# Altium footprint library Capacitor.PcbLib: 8 footprints
Each footprint in its own frame and in the unit in brackets; x right, y up, seen from the top. Pads: shape width x height; smd on the part's side, far side on the other; paste and mask are expansions set on the pad; w line width, h text height; cw(c..) or ccw(c..) is an arc to the next point about the centre after c.
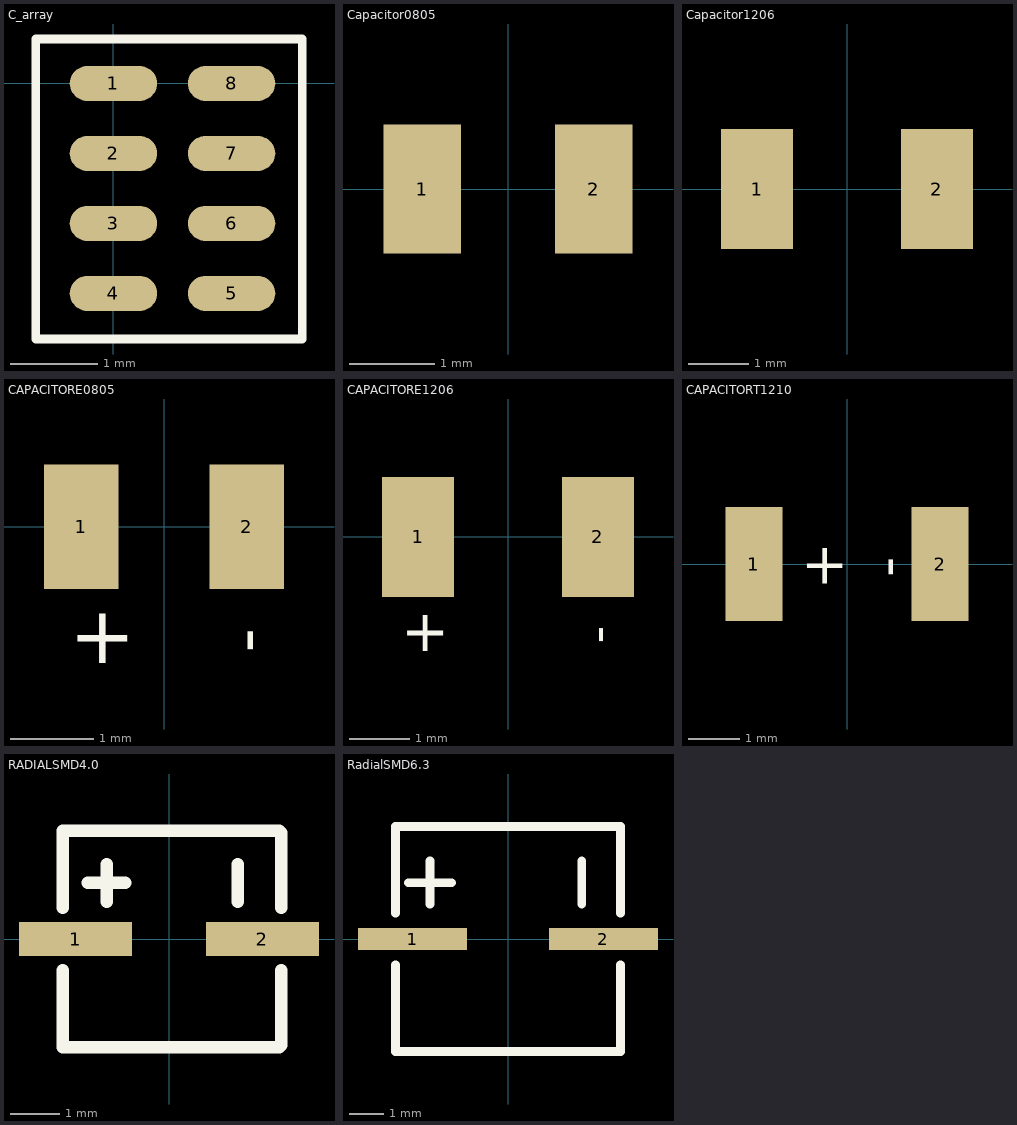
[diagram p0: the footprints below, top view; thin cyan lines are the x and y axes]

## C_array [mm]
pads (8):
  oval 1x0.4 smd: 1(0,0) 2(0,-0.8) 3(0,-1.6) 4(0,-2.4) 5(1.35,-2.4) 6(1.35,-1.6) 7(1.35,-0.8) 8(1.35,0)
Top Overlay:
  lines w0.1: -0.889,-2.921 -0.889,0.508 2.159,0.508 2.159,-2.921 -0.889,-2.921
3D body: height 1.11, standoff 0.01, extent -0.165,-2.819 1.435,0.381

## Capacitor0805 [mm]
pads (2):
  rect 0.9x1.5 smd: 1(-1,0) 2(1,0)
3D body: height 0.78, standoff 0, extent -1.016,-0.625 0.984,0.625

## Capacitor1206 [mm]
pads (2):
  rect 1.2x2 smd: 1(-1.5,0) 2(1.5,0)
3D body: height 1, standoff 0, extent -1.6,-0.8 1.6,0.8

## CAPACITORE0805 [mm]
pads (2):
  rect 0.9x1.5 smd: 1(-1,0) 2(1,0)
Top Overlay:
  text "-" at 1.27,-1.524 h0.6
  text "+" at -1.143,-1.651 h0.7

## CAPACITORE1206 [mm]
pads (2):
  rect 1.2x2 smd: 1(-1.5,0) 2(1.5,0)
Top Overlay:
  text "-" at 1.778,-1.778 h0.6
  text "+" at -1.778,-1.905 h0.7

## CAPACITORT1210 [mm] "Tantalum Capacitor 1210"
pads (2):
  rect 1.1x2.2 smd: 1(-1.8,0) 2(1.8,0)
Top Overlay:
  text "-" at 1.143,-0.254 h0.8
  text "+" at -0.889,-0.381 h0.8
3D body: height 2.09, standoff -0.01, extent -1.869,-1.393 1.821,1.427

## RADIALSMD4.0 [mm]
pads (2):
  rect 2.3x0.7 smd: 1(-1.9,0) 2(1.9,0)
Top Overlay:
  lines w0.254: -2.159,-0.635 -2.159,-2.2 2.245,-2.2 2.286,-2.159 2.286,-0.635 ; -2.159,0.635 -2.159,2.2 2.245,2.2 2.286,2.159 2.286,0.635 ; -1.651,1.143 -0.889,1.143 ; -1.27,0.762 -1.27,1.524 ; 1.397,0.762 1.397,1.524
3D body: height 5.42, standoff 0, extent -2.3,-2.15 2.3,2.15

## RadialSMD6.3 [mm] "SMD Type Radial"
pads (2):
  rect 3.2x0.65 smd: 1(-2.8,0) 2(2.8,0)
Top Overlay:
  lines w0.254: -3.3,-0.764 -3.3,-3.3 3.3,-3.3 3.3,-0.764 3.302,-0.762 ; -3.3,0.762 -3.3,3.3 3.3,3.3 3.3,0.764 ; -2.921,1.651 -1.651,1.651 ; -2.286,1.016 -2.286,2.286 ; 2.159,1.016 2.159,2.286
3D body: height 5.42, standoff 0, extent -3.5,-3.3 3.5,3.3